# Altium schematic symbol library CamperPi.SCHLIB: 7 symbols
Pins are listed as number, name and electrical type; pins without a type are passive.

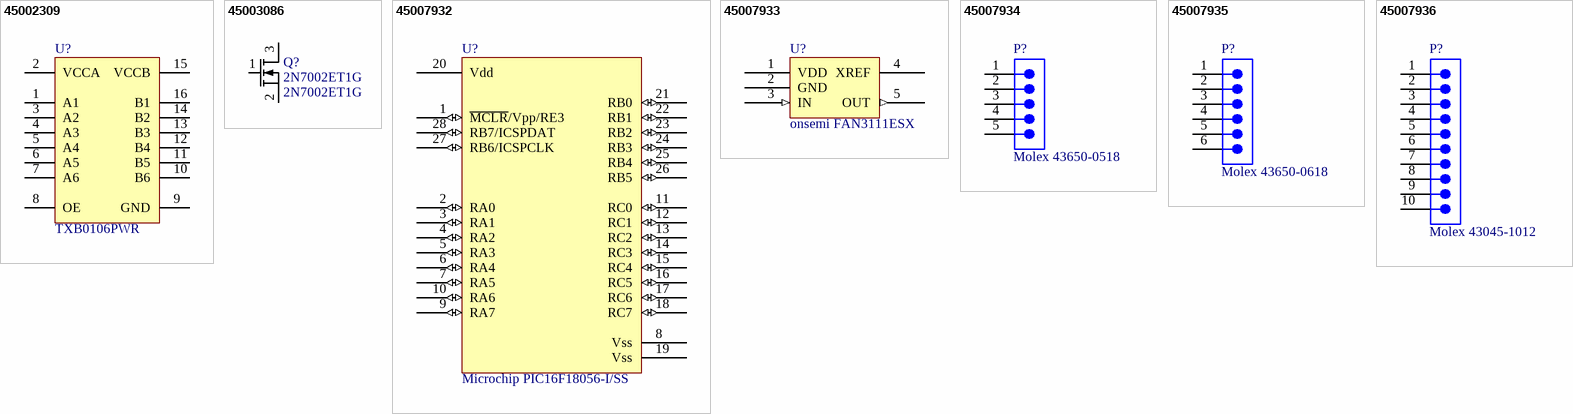
[diagram p0: symbols 45002309 to 45007936]

## 45002309
designator U?, comment TXB0106PWR
6-Bit Bidirectional Voltage-Level Translator with Auto Direction Sensing and +/-15-kV ESD Protect 16-TSSOP -40 to 85; Data Rate: 20.0 Mbps; Number of Bits: 6; Output Current: 20.0 µA; Lead-Free Status: Lead Free; Supply Voltage (DC): 1.20 V (min); Octopart URL: http://octopart.com/txb0106pwr-texas+instruments-9437508; Footprint: PCB-ztrhg0y747ii0n33kl89-10; Manufacturer Part Number: TXB0106PWR; REACH SVHC Compliance: No SVHC; Case/Package: TSSOP; OctopartID: 477c8ee6635e98bb; Lifecycle Status: Active; Mounting Style: Surface Mount; Packaging: Tape & Reel (TR), Cut Tape (CT); Number of Outputs: 6; Number of Pins: 16; RoHS: Compliant
footprint PCB-ztrhg0y747ii0n33kl89-1 (Footprint - TI TXB0108PWR)
pins: 1 A1, 2 VCCA (power), 3 A2, 4 A3, 5 A4, 6 A5, 7 A6, 8 OE, 9 GND, 10 B6, 11 B5, 12 B4, 13 B3, 14 B2, 15 VCCB, 16 B1

## 45003086
designator Q?, comment 2N7002ET1G
Small Signal MOSFET, 60 V, 310 mA, Single, N-Channel, 3-Pin SOT-23, Pb-Free, Tape and Reel; Manufacturer: ON Semiconductor; Drain to Source Voltage (Vds): 60.0 V; Lead-Free Status: Lead Free; Continuous Drain Current (Ids): 0.31 A; Polarity: N-Channel; REACH SVHC Compliance: No SVHC; Octopart Url: https://octopart.com/2n7002et1g-on+semiconductor-7127676; Halogen Free Status: Halogen Free; Case/Package: SOT-23-3; RoHS: Compliant; OctopartID: 282be14dcf31f7ec; Lifecycle Status: Active; Number of Pins: 3; Manufacturer Part Number: 2N7002ET1G
footprint ONSC-SOT-23-3-318-08_V (SOT23, 3-Leads, Body 2.92x1.3mm, Pitch 0.95mm)
pins: 1 G, 2 S, 3 D

## 45007932
designator U?, comment Microchip PIC16F18056-I/SS
MCU 8-Bit PIC16F PIC RISC 28KB Flash 1.8V to 5.5V 28-Pin SSOP Tube; Octopart Url: https://octopart.com/pic16f18056-i%2Fss-microchip-128032751; Manufacturer Part Number: PIC16F18056-I/SS; Lifecycle Status: Not Listed by Manufacturer; OctopartID: 10e1de4aaa68cf26
footprint MCHP-SOIC-SO28_L (SOIC, 28-Leads, Body 17.9x7.5mm, Pitch 1.27mm, IPC High Density)
footprint MCHP-SSOP-SS28_N (SOP, 28-Leads, Body 10.2x5.3mm, Pitch 0.65mm, IPC Medium Density)
pins: 1 ~{MCLR}/Vpp/RE3 (io), 2 RA0 (io), 3 RA1 (io), 4 RA2 (io), 5 RA3 (io), 6 RA4 (io), 7 RA5 (io), 8 Vss (power), 9 RA7 (io), 10 RA6 (io), 11 RC0 (io), 12 RC1 (io), 13 RC2 (io), 14 RC3 (io), 15 RC4 (io), 16 RC5 (io), 17 RC6 (io), 18 RC7 (io), 19 Vss (power), 20 Vdd (power), 21 RB0 (io), 22 RB1 (io), 23 RB2 (io), 24 RB3 (io), 25 RB4 (io), 26 RB5 (io), 27 RB6/ICSPCLK (io), 28 RB7/ICSPDAT (io)

## 45007933
designator U?, comment onsemi FAN3111ESX
Gate Driver, 1 Channels, Low Side, MOSFET, 5 Pins, SOT-23, Non-Inverting; Supply Voltage (DC): 4.50 V (min), 18.0 V (max); Lead-Free Status: Lead Free; RoHS: Compliant; Octopart Url: https://octopart.com/fan3111esx-onsemi-84324993; Case/Package: SOT-23-5; Mounting Style: Surface Mount; OctopartID: 22bfeeb3b558fd78; Packaging: Cut Tape (CT); Lifecycle Status: Active; Number of Pins: 5; Operating Temperature: -40.0 °C (min); Manufacturer Part Number: FAN3111ESX; REACH SVHC Compliance: No SVHC
footprint onsemi FAN3111ESX-Footprint-1
pins: 1 VDD (power), 2 GND, 3 IN (in), 4 XREF, 5 OUT (out)

## 45007934
designator P?, comment Molex 43650-0518
Header 3.00mm, WTB, single row, vert, 5w; Manufacturer Lifecycle Status: ACTIVE (Last Updated: 4 years ago); Voltage Rating: 600 V; Gender: Male; Number of Contacts: 5; Current Rating: 5 A; Glow Wire Compliant: Compliant; Pitch: 3 mm; Plating: Tin; Octopart Url: https://octopart.com/43650-0518-molex-2520849; Contact Plating: Tin; Orientation: Vertical; Min Operating Temperature: -40 °C; Height: 10.15 mm; Lifecycle Status: Production (Last Updated: 4 years ago); Max Operating Temperature: 105 °C; Number of Positions: 5; Contact Material: Brass; Number of Pins: 5; Schedule B: 8536694040, 8536694040; Color: Black; OctopartID: 2520849; Housing Material: Thermoplastic; Termination: Through Hole; Halogen Free: Low Halogen; Manufacturer Part Number: 43650-0518; Number of Rows: 1; Contact Gender: Male; Number of Circuits: 5; RoHS: Compliant; Country of Origin: US
footprint Molex 43650-0518-Footprint-1
pins: 1, 2, 3, 4, 5

## 45007935
designator P?, comment Molex 43650-0618
Header 3.00mm, WTB, single row, vert, 6w; Manufacturer Lifecycle Status: ACTIVE (Last Updated: 4 years ago); Voltage Rating: 600 V; Current Rating: 5 A; Number of Positions: 6; Plating: Tin; Pitch: 3 mm; Glow Wire Compliant: Compliant; Max Voltage Rating (AC): 250 V; Gender: Male; ReplaceComponentId: IDVZRCMK; Orientation: Vertical; Contact Plating: Tin; Mount: Through Hole; Halogen Free: Low Halogen; Case/Package: 0618; Number of Rows: 1; Termination: Solder; Lifecycle Status: Production (Last Updated: 4 years ago); Contact Gender: Male; Country of Origin: US; Number of Circuits: 6; RoHS: Compliant; Octopart Url: https://octopart.com/43650-0618-molex-7665758; OctopartID: 7665758; Contact Material: Brass; Min Operating Temperature: -40 °C; Max Operating Temperature: 105 °C; Housing Material: Thermoplastic; Manufacturer Part Number: 43650-0618; Number of Contacts: 6; PartId: 1
footprint Molex 43650-0618-Footprint-1
pins: 1, 2, 3, 4, 5, 6

## 45007936
designator P?, comment Molex 43045-1012
Conn Power HDR 10 POS 3mm Solder ST Thru-Hole 10 Terminal 1 Port Micro-Fit 3.0; Gender: Male; Current Rating: 5.00 A; Voltage Rating (AC): 250 V; Number of Circuits: 10; Insulation Resistance: 1.00 GΩ; Mated Height: 10.3 mm; Lead-Free Status: Lead Free; Glow Wire Compliant: Compliant; Pin Pitch: 3.00 mm; Contact Plating: Tin; Packaging: Tray, Bulk; Color: Black; Size-Diameter: 3.00 mm; Octopart URL: http://octopart.com/43045-1012-molex-287042; Lifecycle Status: Active; OctopartID: e2422b4ca6663d85; Halogen Free Status: Low Halogen; Size-Length: 18.6 mm; RoHS: Compliant; Orientation: Vertical; Flammability Rating: UL 94 V-0; Voltage Rating (DC): 250 V; Number of Rows: 2; Manufacturer Part Number: 43045-1012; Housing Color: Black; Size-Height: 9.90 mm; Contact Material: Brass; Number of Positions: 10; Housing Material: Thermoplastic; Size-Width: 7.37 mm; Number of Contacts: 10; Footprint: PCB-u7t7b7u9675bey19pj4f-1; Mounting Style: PCB, Through Hole, PC Board; Material: Polyester
footprint PCB-u7t7b7u9675bey19pj4f-1 (Footprint - Molex 43045-1012)
pins: 1, 2, 3, 4, 5, 6, 7, 8, 9, 10